# Altium footprint library Edge26.PcbLib: 1 footprints
Each footprint in its own frame and in the unit in brackets; x right, y up, seen from the top. Pads: shape width x height; smd on the part's side, far side on the other; paste and mask are expansions set on the pad; w line width, h text height; cw(c..) or ccw(c..) is an arc to the next point about the centre after c.
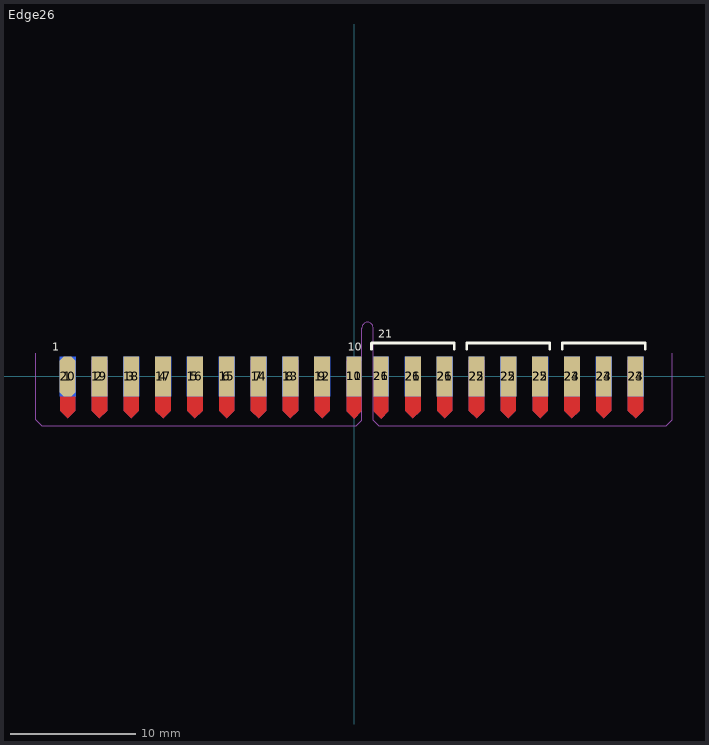
[diagram p0: the footprint, top view; thin cyan lines are the x and y axes]

## Edge26 [mil]
pads (38):
  oct 50x125 smd: 1(-900,0)
  rect 50x125 smd: 2(-800,0) 3(-700,0) 4(-600,0) 5(-500,0) 6(-400,0) 7(-300,0) 8(-200,0) 9(-100,0) 21(185,0) 21(285,0) 22(385,0) 22(485,0) 22(585,0) 23(685,0) 23(785,0) 23(885,0)
  rect 47x125 smd: 10(0,0) 21(85,0)
  rect 47x125 smd far side: 11(0,0) 26(85,0)
  rect 50x125 smd far side: 12(-100,0) 13(-200,0) 14(-300,0) 15(-400,0) 16(-500,0) 17(-600,0) 18(-700,0) 19(-800,0) 20(-900,0) 24(685,0) 24(785,0) 24(885,0) 25(385,0) 25(485,0) 25(585,0) 26(185,0) 26(285,0)
TopLayer:
  region: 108,-110 85,-133 62,-110 62,49 108,49
  region: 23,-110 0,-133 -23,-110 -23,49 23,49
  region: -76,-108 -100,-132 -124,-108 -124,50 -76,50
  region: -176,-108 -200,-132 -224,-108 -224,50 -176,50
  region: -276,-108 -300,-132 -324,-108 -324,50 -276,50
  region: -376,-108 -400,-132 -424,-108 -424,50 -376,50
  region: -476,-108 -500,-132 -524,-108 -524,50 -476,50
  region: -576,-108 -600,-132 -624,-108 -624,50 -576,50
  region: -676,-108 -700,-132 -724,-108 -724,50 -676,50
  region: -776,-108 -800,-132 -824,-108 -824,50 -776,50
  region: -876,-108 -900,-132 -924,-108 -924,50 -876,50
  region: 209,-108 185,-132 161,-108 161,50 209,50
  region: 309,-108 285,-132 261,-108 261,50 309,50
  region: 409,-108 385,-132 361,-108 361,50 409,50
  region: 509,-108 485,-132 461,-108 461,50 509,50
  region: 609,-108 585,-132 561,-108 561,50 609,50
  region: 709,-108 685,-132 661,-108 661,50 709,50
  region: 809,-108 785,-132 761,-108 761,50 809,50
  region: 909,-108 885,-132 861,-108 861,50 909,50
BottomLayer:
  region: 108,-110 85,-133 62,-110 62,49 108,49
  region: 23,-110 0,-133 -23,-110 -23,49 23,49
  region: -876,-108 -900,-132 -924,-108 -924,50 -876,50
  region: -776,-108 -800,-132 -824,-108 -824,50 -776,50
  region: -676,-108 -700,-132 -724,-108 -724,50 -676,50
  region: -576,-108 -600,-132 -624,-108 -624,50 -576,50
  region: -476,-108 -500,-132 -524,-108 -524,50 -476,50
  region: -376,-108 -400,-132 -424,-108 -424,50 -376,50
  region: -276,-108 -300,-132 -324,-108 -324,50 -276,50
  region: -176,-108 -200,-132 -224,-108 -224,50 -176,50
  region: -76,-108 -100,-132 -124,-108 -124,50 -76,50
  region: 209,-108 185,-132 161,-108 161,50 209,50
  region: 309,-108 285,-132 261,-108 261,50 309,50
  region: 409,-108 385,-132 361,-108 361,50 409,50
  region: 509,-108 485,-132 461,-108 461,50 509,50
  region: 609,-108 585,-132 561,-108 561,50 609,50
  region: 709,-108 685,-132 661,-108 661,50 709,50
  region: 809,-108 785,-132 761,-108 761,50 809,50
  region: 909,-108 885,-132 861,-108 861,50 909,50
TopOverlay:
  lines w8: 55,85 55,105 185,105 315,105 315,85 ; 355,85 355,105 485,105 615,105 615,85 ; 655,85 655,105 785,105 915,105 915,85
  text "1" at -949,81 h25
  text "10" at -19,81 h25
  text "21" at 76,122 h25
BottomOverlay:
  lines w8: 55,85 55,105 185,105 315,105 315,85 ; 355,85 355,105 485,105 615,105 615,85 ; 655,85 655,105 785,105 915,105 915,85
  text "20" at -919,81 h25
  text "11" at 16,81 h25
  text "26" at 111,121 h25
Mechanical1:
  lines w1: -1000,72 -1000,-137 -982,-155 7,-155 24.5,-137.5 24.5,152 cw(c42.5,152) 60.5,152 60.5,-137.5 78,-155 982,-155 1000,-137 1000,72